# EAGLE library part 14_PIN_FEMALE_HEADER (library Tft_lcd_header)
FEMALE HEADER
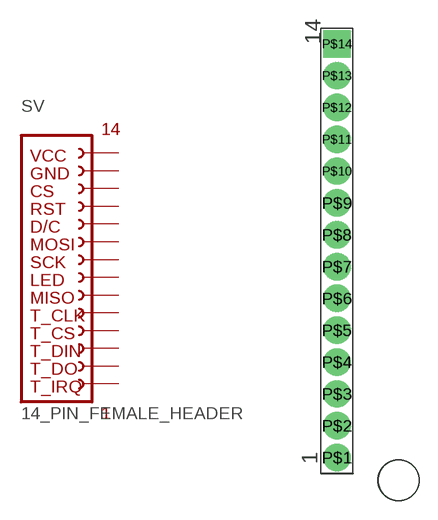
[diagram p0: symbol with the pads of FE15; footprint FE15]

Designator prefix SV

## 14_PIN_FEMALE_HEADER (OC_FARNELL: unknown; OC_NEWARK: unknown)  [FE15]
P$1  T_IRQ  pas
P$2  T_DO  pas
P$3  T_DIN  pas
P$4  T_CS  pas
P$5  T_CLK  pas
P$6  MISO  pas
P$7  LED  pas
P$8  SCK  pas
P$9  MOSI  pas
P$10  D/C  pas
P$11  RESET  pas
P$12  CS  pas
P$13  GND  pas
P$14  VCC  pas

## Footprint FE15 (pad centres in mm)
FEMALE HEADER
drill 1.2 pad 2.184: P$1 0,0; P$2 0,2.54; P$3 0,5.08; P$4 0,7.62; P$5 0,10.16; P$6 0,12.7; P$7 0,15.24; P$8 0,17.78; P$9 0,20.32; P$10 0,22.86; P$11 0,25.4; P$12 0,27.94; P$13 0,30.48
drill 1.2 pad 2.184 square: P$14 0,33.02
hole 3.2 at 4.94,-1.81